# EAGLE library part SOICBITE (library SOICbite_Eagle.lbr)
SOICbite footprint Allows for direct clipping of a SOIC-8 Testclip onto a PCB edge for Programming/Debugging purposes without extra components. Original footprint created by: Simon Merrit Adapted to Eagle by: Chiel Voswijk (Foxhood) NOTE: Footprint is to be used on the edge of a PCB and may require the use of thin traces for accessing the inner pads. This may violate some Design Rules of certain! One can often ignore these, but understand working is NOT guaranteed.
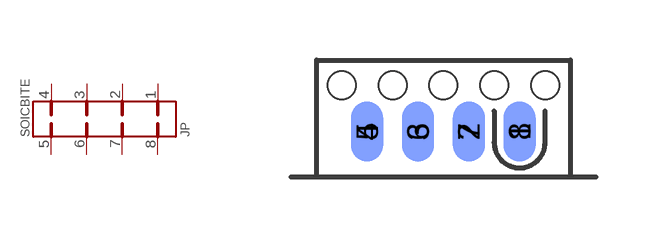
[diagram p0: symbol with the pads of SOICBITE; footprint SOICBITE]

Designator prefix JP

## SOICBITE  [SOICBITE]
1  P$1  pas
2  P$2  pas
3  P$3  pas
4  P$4  pas
5  P$5  pas
6  P$6  pas
7  P$7  pas
8  P$8  pas

## Footprint SOICBITE (pad centres in mm)
smd 0.8 x 1.5: 1 1.905,0.75; 2 0.635,0.75; 3 -0.635,0.75; 4 -1.905,0.75
smd 0.8 x 1.5 bottom: 5 -1.905,0.75; 6 -0.635,0.75; 7 0.635,0.75; 8 1.905,0.75
hole 0.7 at -2.54,1.905
hole 0.7 at -1.27,1.905
hole 0.7 at 0,1.905
hole 0.7 at 1.27,1.905
hole 0.7 at 2.54,1.905